# EAGLE library part EPCS4 (library fpgas)
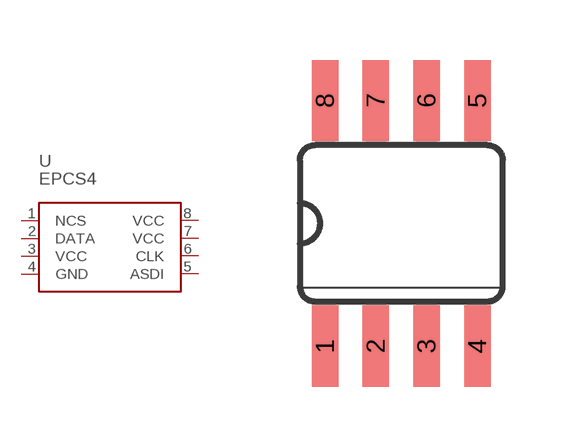
[diagram p1: symbol with the pads of SOIC08; footprint SOIC08]

Designator prefix -

## EPCS4 (PACKAGE: SOIC08)  [SOIC08]
1  NCS
2  DATA
3  VCC
4  GND
5  ASDI
6  CLK
7  VCC
8  VCC

## Footprint SOIC08 (pad centres in mm)
Small Outline Package
smd 0.66 x 2.032: 1 -1.905,-3.073; 2 -0.635,-3.073; 3 0.635,-3.073; 4 1.905,-3.073; 5 1.905,3.073; 6 0.635,3.073; 7 -0.635,3.073; 8 -1.905,3.073